# Altium schematic symbol library SmartHalo_Symbols.SchLib: 126 symbols (part 1 of 2)
Pins are listed as number, name and electrical type; pins without a type are passive.

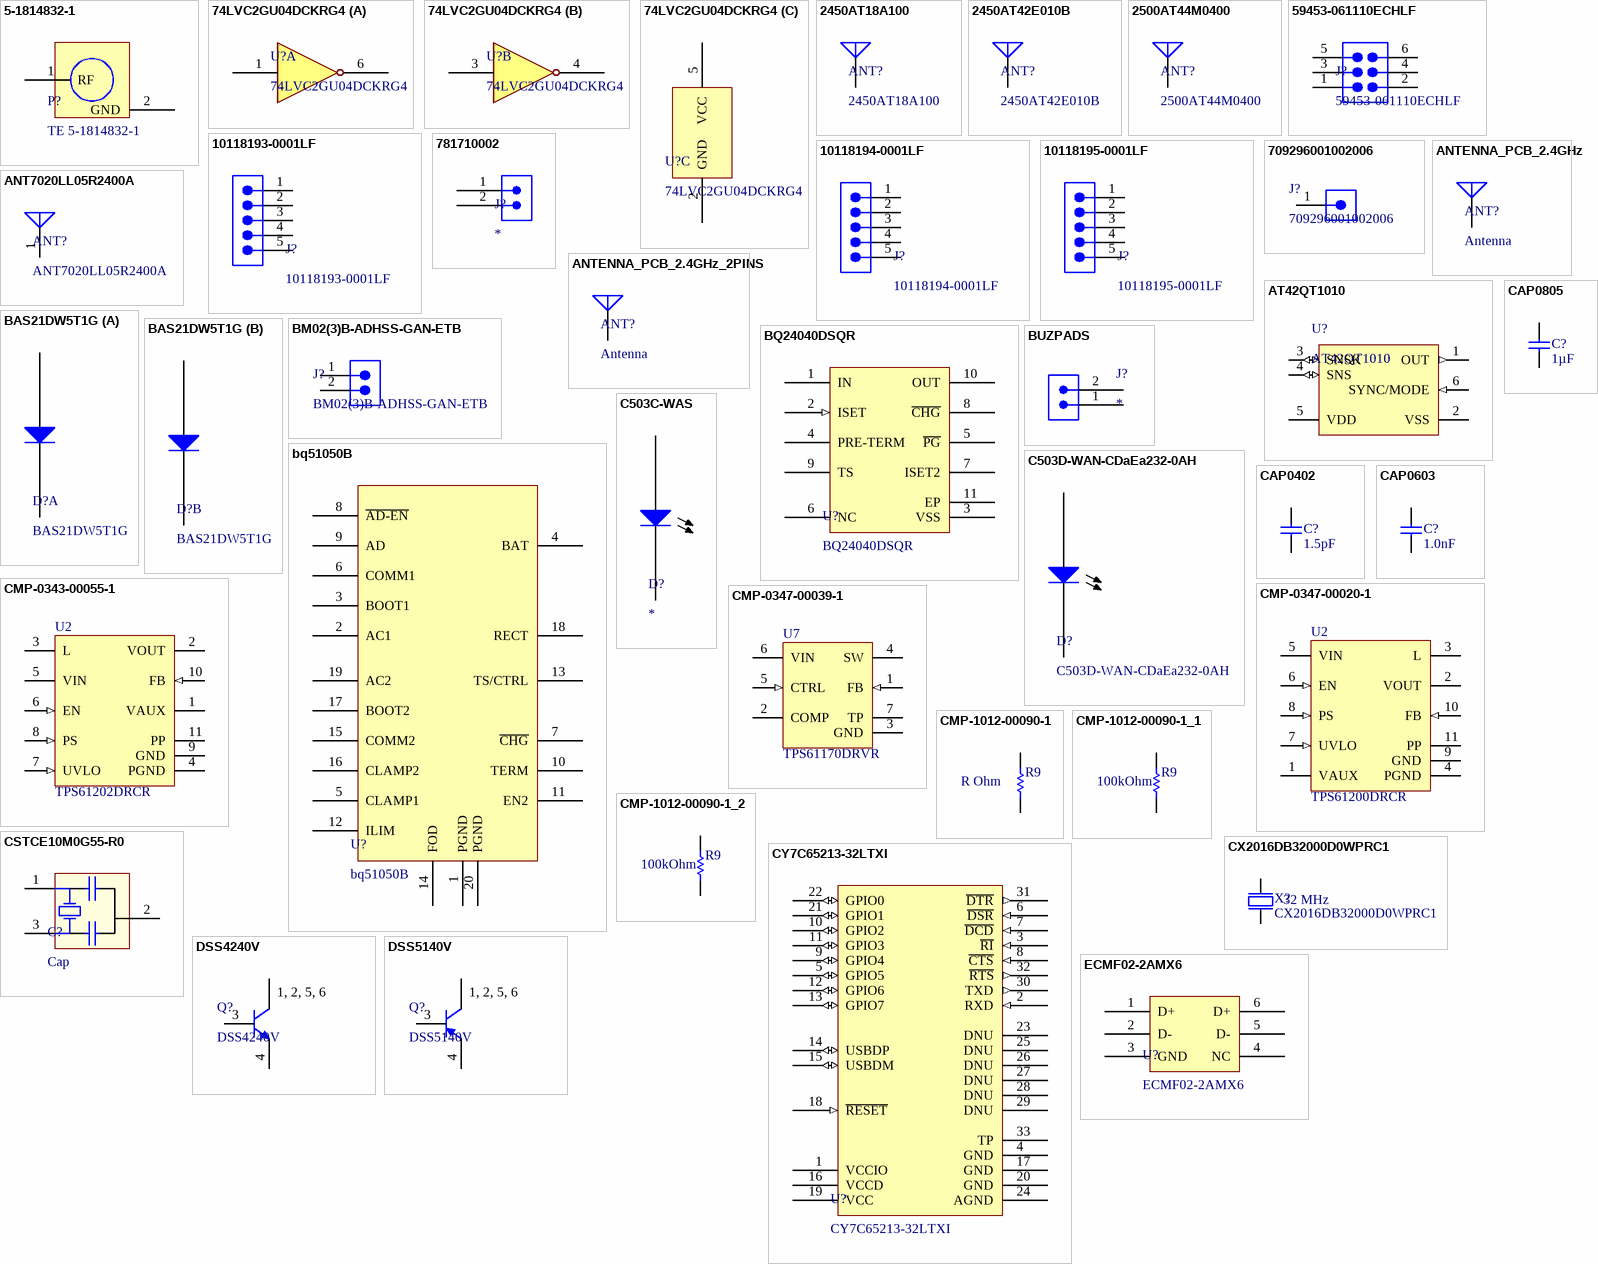
[diagram p0: symbols 5-1814832-1 to ECMF02-2AMX6]

## 5-1814832-1
designator P?, comment TE 5-1814832-1
CONN SMA JACK STR 50 OHM PCB; Manufacturer: TE Connectivity
footprint TE_SMA_TH (CONN SMA JACK STR 50 OHM PCB, 4 x 1.6mm holes, 1.5mm central hole, 5.08mm pitch)
pins: 1 RF, 2 GND

## 74LVC2GU04DCKRG4
designator U?
Dual Inverter Gate; Manufacturer: Texas Instruments; Manufacturer Part Number: 74LVC2GU04DCKRG4; Part Number: 74LVC2GU04DCKRG4; Supplier: Arrow Electronics; Footprint Name: SOT363
footprint SOT363_SC70_6 (SOT363-6, SC70, 2 x 1.25 x 1 mm body, 16 x 26 mils pads, 26 x 71 mils pitch)
part A pins: 1, 6
part B pins: 3, 4
part C pins: 2 GND, 5 VCC

## 2450AT18A100
designator ANT?
CHIP ANTENNA, 2.45GHz, 3.2 x 1.6 x 1.3 mm body; Manufacturer: Johanson Technology; Part Number: 2450AT18A100; Manufacturer Part Number: 2450AT18A100
footprint 2450AT18A100 (Johanson Technology 2.45GHz SMD Chip Antenna, 3.2 x 1.6 mm body, 0.8 x 1.6 mm pads)
pins: 1 Feed

## 2450AT42E010B
designator ANT?
CHIP ANTENNA, 2.45GHz, 5 x 2 x 1.5 mm body; Manufacturer: Johanson Technology; Part Number: 2450AT42E010B; Manufacturer Part Number: 2450AT42E010B; Supplier: Arrow Electronics; Footprint Name: CUSTOM(2 pins)
footprint 2450AT42E010B (2.4 GHz Low Profile Mini Chip Antenna, Above Metal, 4 pads, 1.5 x 0.6 mm pads, 3.5 x 1.6 mm pitch, 6.26 x 3 mm metal clearance)
pins: 1 Feed, 2 NC (power) hidden, 3 GND (power) hidden to GND, 4 GND (power) hidden to GND

## 2500AT44M0400
designator ANT?
CHIP ANTENNA, 2.45GHz, 8 x 1 mm body; Manufacturer: Johanson Technology; Part Number: 2500AT44M0400; Manufacturer Part Number: 2500AT44M0400
footprint 2500AT44M0400 (Johanson Technology 2.45GHz SMD Chip Antenna, 8 x 1 mm body, 1 x 1.5 mm pads)
pins: 1 Feed

## 59453-061110ECHLF
designator J?
Connector, FPC, 0.5 mm pitch, 6 contacts; Manufacturer: FCI; Manufacturer Part Number: 59453-061110ECHLF; Part Number: 59453-061110ECHLF; Supplier: Arrow Electronics; Footprint Name: CUSTOM(FPC Connector)
footprint 59453061110ECHLF (Connector, 6 contacts, 0.3 x 0.9 mm pads, 0.52 x 1.0 mm mechanical pads, 0.5 mm pitch)
pins: 0 ASSY (power) hidden to GND, 1, 2, 3, 4, 5, 6

## 10118193-0001LF
designator J?
Micro USB B Type Receptacle; Manufacturer: Amphenol FCI; Manufacturer Part Number: 10118193-0001LF; Part Number: 10118193-0001LF
footprint 10118193-0001LF (Micro USB B Type Receptacle, 5 pins, 0.4 x 1.35 mm pads)
pins: 1, 2, 3, 4, 5

## 10118194-0001LF
designator J?
Micro USB B Type Receptacle; Manufacturer: Amphenol FCI; Manufacturer Part Number: 10118194-0001LF; Part Number: 10118194-0001LF; Supplier: Arrow Electronics; Footprint Name: CUSTOM(Micro USB connector); Supplier Part Number: *
footprint 10118194-0001LF (Micro USB B Type Receptacle, 5 pins, 0.4 x 1.35 mm pads)
pins: 0 ASSY (power) hidden to USBGND, 1, 2, 3, 4, 5

## 10118195-0001LF
designator J?
Micro USB B Type Receptacle; Manufacturer: Amphenol FCI; Manufacturer Part Number: 10118195-0001LF; Part Number: 10118195-0001LF
footprint 10118195-0001LF (Micro USB B Type Receptacle, 5 pins, 0.4 x 1.35 mm pads)
pins: 0 ASSY (power) hidden to GND, 1, 2, 3, 4, 5

## 781710002
designator J?  (no BOM)
1.20MM WTB HEADER VERT 2POS
footprint 0781710002 (Molex header, 1 row, 2 pos, pitch 1.2mm)
pins: 1, 2

## 709296001002006
designator J?
Connector, Single Horizontal Contact, 2 x 2 mm; Manufacturer: AVX; Manufacturer Part Number: 709296001002006; Part Number: 709296001002006; Supplier: Arrow Electronics; Footprint Name: CUSTOM(Wire to board connector); Supplier Part Number: *
footprint 709296001002006 (Connector Wire to Board, 2.0 x 2.0 mm, 2 pads, 2.4 x 2.2 mm, 4 mm pitch)
pins: 1

## ANT7020LL05R2400A
designator ANT?
CHIP ANTENNA, 2.45GHz, 7 x 2 mm body; Manufacturer: Yageo; PartNumber: ANT7020LL05R2400A
footprint ANT7020LL05R2400A (Yageo 2.45GHz SMD Chip Antenna, 7 x 2 mm body, 1.25 x 1 mm pads)
pins: 1 Feed

## ANTENNA_PCB_2.4GHz
designator ANT?, comment Antenna  (no BOM)
Antenna PCB, 2.4GHz, 26.11 mm x 1.27 mm, FR4 60 mils, Er = 4.2
footprint ANTENNA_PCB_2.4GHZ (ANT_PCB_2.4GHZ_NRF51422_1.6MM_1OZ)
footprint ANT_2.4GHZ_FR408_4L_Meander (PCB printed meander antenna design for 2.4GHz band on FR408 4 layer substrate with internal ground plane (1 oz external cu/0.5 oz internal))
pins: 1 Feed

## ANTENNA_PCB_2.4GHz_2PINS
designator ANT?, comment Antenna  (no BOM)
Antenna PCB, 2.4GHz
footprint ANT_2.4GHZ_FR408_4L_CMIFA (PCB printed Cypress MIFA antenna design for 2.4GHz band (TI) on FR408 4 layer substrate with internal ground plane (1 oz external cu/0.5 oz internal))
footprint ANT_2.4GHZ_FR408_4L_TIFA (PCB printed IFA antenna design for 2.4GHz band (TI) on FR408 4 layer substrate with internal ground plane (1 oz external cu/0.5 oz internal))
pins: 1 Feed, 2 GND (power) hidden to GND

## AT42QT1010
designator U?
One-channel Touch Sensor IC with Reset Timer, -40° to +85° C, 6-pin SOT23; Manufacturer: Atmel; Manufacturer Part Number: AT42QT1010; Part Number: AT42QT1010; Supplier: Arrow Electronics; Footprint Name: SOT23-6
footprint 6ST1_N (SOT23, 6-Leads, Body 2.9x1.6mm, Pitch 0.95mm, Lead Span 2.8mm, IPC Medium Density)
pins: 1 OUT (out), 2 VSS (power), 3 SNSK (io), 4 SNS (io), 5 VDD (power), 6 SYNC/MODE (in)

## BAS21DW5T1G
designator D?
High Voltage Switching Diode; Manufacturer: ON Semiconductor; Manufacturer Part Number: BAS21DW5T1G; Part Number: BAS21DW5T1G; Supplier: Arrow Electronics; Footprint Name: SC70-5
footprint SC70-5 (SC70-5, 0.4 x 0.5 mm pads, 0.65 x 1.9 mm pitch)
part A pins: 1 Anode, 5 Cathode
part B pins: 2 hidden, 3 Anode, 4 Cathode

## BM02(3)B-ADHSS-GAN-ETB
designator J?
Connector, 1.3 mm pitch; Manufacturer: JST; Manufacturer Part Number: BM02(3)B-ADHSS-GAN-ETB; Part Number: BM02(3)B-ADHSS-GAN-ETB; Supplier: Arrow Electronics; Footprint Name: CUSTOM(ADH Connector 2 pins)
footprint BM02(3)B-ADHSS-GAN-ETB (ADH Connector, 2 pins, 0.9 x 0.6 mm pads, 2 mecanical pads 2.2 x 0.75 mm)
pins: 0 ASSY (power) hidden to GND, 1, 2

## BQ24040DSQR
designator U?
800 mA, Single-Input, Single Cell Li-Ion Battery Charger with Auto Start. Vovp=6.6 V, 3.5 V, -40 to 85 degC, 10-pin SON (DSQ), Green (RoHS & no Sb/Br); Manufacturer: Texas Instruments; Manufacturer Part Number: BQ24040DSQR; Part Number: BQ24040DSQR; Supplier: Arrow Electronics; Footprint Name: WSON10
footprint DSQ10-1500X900TP (WSON-10, 10 pins, 0.23 x 0.7 mm pads, 0.4 x 2.1 mm pitch, Thermal pad 0.9 x 1.5 mm)
pins: 1 IN (power), 2 ISET (in), 3 VSS (power), 4 PRE-TERM, 5 ~{PG}, 6 NC, 7 ISET2, 8 ~{CHG}, 9 TS, 10 OUT (power), 11 EP (power)

## bq51050B
designator U?
IC WIRELESS PWR RCVR 20QFN
footprint RHL20-3050X2050TP (QFN, 20-Leads, Body 4.5x3.5mm, Pitch 0.5mm, Thermal Pad 3.05x2.05mm, TI Recommended)
pins: 1 PGND, 2 AC1, 3 BOOT1, 4 BAT, 5 CLAMP1, 6 COMM1, 7 ~{CHG}, 8 ~{AD-EN}, 9 AD, 10 TERM, 11 EN2, 12 ILIM, 13 TS/CTRL, 14 FOD, 15 COMM2, 16 CLAMP2, 17 BOOT2, 18 RECT, 19 AC2, 20 PGND, 21 TP (power) hidden to GND "Thermal pad"

## BUZPADS
designator J?
Buzzer Pogo Pins, Sizes and Pitch TBD
footprint BUZZERPADS (Buzzer Pogo Pin Pads, 2 x 0.5mm, Pitch 1mm)
pins: 1, 2

## C503C-WAS
designator D?
Cree 5mm Round LED C503C-WAS
footprint FRONTLED_PADS (Front Led pads); pin to pad A>1 C>2
pins: 1 Anode, 2 Cathode

## C503D-WAN-CDaEa232-0AH
designator D?
Cree 5mm Round LED C503D-WAN-CDaEa232-0AH; Manufacturer: Cree; Manufacturer Part Number: C503D-WAN-CDaEa232-0AH; Part Number: C503D-WAN-CDaEa232-0AH; Supplier: Arrow Electronics; Footprint Name: THROUGHHOLE(2 pins)
footprint FRONTLED_PADS (Front Led pads); pin to pad A>1 C>2
pins: 1 Anode, 2 Cathode

## CAP0402
designator C?, comment 1.5pF
Chip Cap 0402 NP0 5%; Part Number: C0402-1.2p; Note: Chip Cap NP0 5%; Artikkelnr Noca: 20029157; Manufacturer: *; Manufacturer Part Number: *; Datasheet: *; Footprint: 0402s; LatestRevisionDate: 2009-05-08; Pin Count: 2; Publisher: Nordic Semiconductor; Published: 2009-05-08; Value: 1.5pF; Supplier: *; Supplier part number: *; 2nd source Supplier: *; 2nd source part number: *
footprint 0402s
pins: 1, 2

## CAP0603
designator C?, comment 1.0nF
Chip Cap 0603 X7R 10%; Part Number: C0402-1n0; Note: Chip Cap X7R 10%; Artikkelnr Noca: 20039223; Published: 2009-05-08; LatestRevisionDate: 2009-11-23; Publisher: Nordic Semiconductor; Value: 1.0nF; Manufacturer: *; Manufacturer Part Number: *; Datasheet: *; Footprint: 0603; Pin Count: 2; Supplier: *
footprint CAPC0603(1608)100_N (Chip Capacitor, Body 1.6x0.8mm, Height 1.0mm, IPC Medium Density)
pins: 1, 2

## CAP0805
designator C?, comment 1µF
X7R, 10V; Part Number: C0603-1µ0; Manufacturer: TAIYO YUDEN; Manufacturer Part Number: LMK107B7105KA-T; Note: Chip Cap 10% X7R; Published: 2009-05-08; LatestRevisionDate: 2009-11-23; Publisher: Nordic Semiconductor; Value: 1µF; Datasheet: http://www.yuden.co.jp/us/product/capacitor/LMK107B7105KA-T.html; Footprint: 0603s; Pin Count: 2; Supplier: Farnell; Artikkelnr Noca: *; Supplier Part Number: 1683674
footprint CAPC0805(2012)100_N (Chip Capacitor, Body 2.0x1.2mm, Height 1.0mm, IPC Medium Density)
pins: 1, 2

## CMP-0343-00055-1
designator U2, comment TPS61202DRCR
Boost Voltage Converter with 0.3 to 5.5 V Input and 5 V Output, -40 to 85 degC, 10-Pin SON (DRC), Green (RoHS & no Sb/Br); Manufacturer: Texas Instruments; Vout(Min)(V): 5; Vin(Min)(V): 0.3; Synchronous Rectification: TRUE; SubFamily: Step-Up Regulator; Vin(Max)(V): 5.5; Regulated Outputs(#): 1; Switching Frequency(Max)(kHz): 1250; DatasheetVersion: SLVS577B; Eco-Plan: Green (RoHS & no Sb/Br); PackageVersion: revL, Sep-2011; ComponentLink1Description: Datasheet; ComponentLink1URL: http://www.ti.com/general/docs/lit/getliterature.tsp?genericPartNumber=TPS61202&fileType=pdf; PartNumber: TPS61202DRCR; Vout(Max)(V): 5; Topology: Boost; ComponentLink2Description: Package Specification; Mounting Technology: Surface Mount; PackageDescription: 10-Pin Plastic Small Outline No-Lead, 3 x 3 x 1 mm Body, 0.5 mm Pitch, Exposed Pad; PackageReference: DRC10-2400X1650TP; Preset Vout(V): 5; ComponentLink2URL: http://www.ti.com/litv/pdf/mpds117k
footprint DRC10-2400X1650TP (SON, 10-Leads, Body 3x3mm, Pitch 0.5mm, Thermal Pad 2.4x1.65mm, TI Recommended)
pins: 1 VAUX (power) "Supply voltage for control stage", 2 VOUT (power) "Boost converter output", 3 L (power) "Connection for Inductor", 4 PGND (power) "Power ground", 5 VIN (power) "Boost converter input voltage", 6 EN (in) "Enable input (1: enabled, 0: disabled).", 7 UVLO (in) "Undervoltage lockout comparator input, must be connected to VAUX if not used", 8 PS (in) "Enable/disable Power Save mode (1 : disabled, 0: enabled)", 9 GND (power) "Control / logic ground", 10 FB (in) "Voltage feedback of adjustable versions, must be connected to VOUT at fixed output voltage versions", 11 PP (power) "Must be soldered to achieve appropriate power dissipation. Should be connected to PGND."

## CMP-0347-00020-1
designator U2, comment TPS61200DRCR
Boost Voltage Converter with 0.3 to 5.5 V Input and 1.8 to 5.5 V Output, -40 to 85 degC, 10-Pin SON (DRC), Green (RoHS & no Sb/Br); Manufacturer: Texas Instruments; Vout(Min)(V): 1.8; Vin(Max)(V): 5.5; Synchronous Rectification: TRUE; Regulated Outputs(#): 1; Vin(Min)(V): 0.3; Switching Frequency(Max)(kHz): 1250; SubFamily: Step-Up Regulator; ComponentLink2Description: Package Specification; Mounting Technology: Surface Mount; PartNumber: TPS61200DRCR; ComponentLink2URL: http://www.ti.com/litv/pdf/mpds117k; PackageVersion: revL, Sep-2011; Eco-Plan: Green (RoHS & no Sb/Br); Vout(Max)(V): 5.5; PackageDescription: 10-Pin Plastic Small Outline No-Lead, 3 x 3 x 1 mm Body, 0.5 mm Pitch, Exposed Pad; PackageReference: DRC10-2400X1650TP; DatasheetVersion: SLVS577B; ComponentLink1URL: http://www.ti.com/general/docs/lit/getliterature.tsp?genericPartNumber=TPS61200&fileType=pdf; ComponentLink1Description: Datasheet; Topology: Boost
footprint DRC10-2400X1650TP (SON, 10-Leads, Body 3x3mm, Pitch 0.5mm, Thermal Pad 2.4x1.65mm, TI Recommended)
pins: 1 VAUX (power) "Supply voltage for control stage", 2 VOUT (power) "Boost converter output", 3 L (power) "Connection for Inductor", 4 PGND (power) "Power ground", 5 VIN (power) "Boost converter input voltage", 6 EN (in) "Enable input (1: enabled, 0: disabled).", 7 UVLO (in) "Undervoltage lockout comparator input, must be connected to VAUX if not used", 8 PS (in) "Enable/disable Power Save mode (1 : disabled, 0: enabled)", 9 GND (power) "Control / logic ground", 10 FB (in) "Voltage feedback of adjustable versions, must be connected to VOUT at fixed output voltage versions", 11 PP (power) "Must be soldered to achieve appropriate power dissipation. Should be connected to PGND."

## CMP-0347-00039-1
designator U7, comment TPS61170DRVR
Boost Voltage Converter with 3 to 18 V Input and 3 to 38 V Output, -40 to 85 degC, 6-Pin SON (DRC), Green (RoHS & no Sb/Br); Manufacturer: Texas Instruments; Regulated Outputs(#): 1; Vout(Min)(V): 3; SubFamily: Step-Up Regulator; Dynamic Voltage Scaling: TRUE; Vin(Max)(V): 18; Switching Frequency(Max)(kHz): 1200; Vout(Max)(V): 38; Eco-Plan: Green (RoHS & no Sb/Br); Topology: Boost; ComponentLink1Description: Datasheet; DatasheetVersion: SLVS789C; ComponentLink2URL: http://www.ti.com/litv/pdf/mpds216d; PackageReference: DRV6-1600X1000TP; PartNumber: TPS61170DRVR; ComponentLink1URL: http://www.ti.com/general/docs/lit/getliterature.tsp?genericPartNumber=TPS61170&fileType=pdf; PackageVersion: revE, Oct-2010; Mounting Technology: Surface Mount; Vin(Min)(V): 3; ComponentLink2Description: Package Specification; PackageDescription: 6-Pin Plastic Small Outline No-Lead, 2 x 2 x 0.8 mm Body, 0.65 mm Pitch, Exposed Pad
footprint DRV6-1600X1000TP (SON, 6-Leads, Body 2x2mm, Pitch 0.65mm, Thermal Pad 1.6x1mm, TI Recommended)
pins: 1 FB (in) "Feedback pin for current. Connect to the center tap of a resistor divider to program the output voltage.", 2 COMP "Output of the transconductance error amplifier. Connect an external RC network to this pin to compensate the regulator.", 3 GND (power) "Ground", 4 SW (power) "This is the switching node of the IC. Connect SW to the switched side of the inductor", 5 CTRL (in) "Control pin of the boost regulator. CTRL is a multi-functional pin which can be used to enable the device and control the feedback voltage with a PWM signal or for digital communications.", 6 VIN (power) "The input supply pin for the IC. Connect VIN to a supply voltage between 3 V and 18 V.", 7 TP (power) "The thermal pad should be soldered to the analog ground plane to avoid thermal issue. If possible, use thermal vias to connect to ground plane for ideal power dissipation."

## CMP-1012-00090-1
designator R9, comment R Ohm
R W TOL%  0603 (1608 Metric)  SMD; Tolerance: TOL; Case-Metric: 1608; Case-EIA: 0603; Technology: SMT; Power: W; Value: R Ohm
footprint RESC0603(1608)_M (Chip Resistor, Body 1.6x0.8mm, IPC Low Density)
pins: 1, 2
1 alternate drawing of the same symbol

## CMP-1012-00090-1_1
designator R9, comment 100kOhm
100K 0.063W 1%  0603 (1608 Metric)  SMD; Case-Metric: 1608; Case-EIA: 0603; Tolerance: 1 %; Technology: SMT; Power: 0.063 W; Value: 100kOhm
footprint RESC0603(1608)_N (Chip Resistor, Body 1.6x0.8mm, IPC Medium Density)
footprint RESC0603(1608)_M (Chip Resistor, Body 1.6x0.8mm, IPC Low Density)
footprint RESC0603(1608)_L (Chip Resistor, Body 1.6x0.8mm, IPC High Density)
pins: 1, 2
1 alternate drawing of the same symbol

## CMP-1012-00090-1_2
designator R9, comment 100kOhm
100K 0.063W 1%  0603 (1608 Metric)  SMD; Case-Metric: 1608; Case-EIA: 0603; Tolerance: 1 %; Technology: SMT; Power: 0.063 W; Value: 100kOhm
footprint RESC0603(1608)_N (Chip Resistor, Body 1.6x0.8mm, IPC Medium Density)
footprint RESC0603(1608)_M (Chip Resistor, Body 1.6x0.8mm, IPC Low Density)
footprint RESC0603(1608)_L (Chip Resistor, Body 1.6x0.8mm, IPC High Density)
pins: 1, 2
1 alternate drawing of the same symbol

## CSTCE10M0G55-R0
designator C?, comment Cap
CER RESONATOR 10.0MHZ SMD
footprint CSTCE10M0G55-R0 (SMD, 3-Leads, Body 3.2x1.3mm, Pitch 1.2mm)
pins: 1 C1, 2 GND (power), 3 C2

## CX2016DB32000D0WPRC1
designator X?  Frequency: 32 MHz
XTAL 32 MHz, 8pF, 3.2 x 1.5 mm, ±20 ppm Tol, ±200 ppm Drift; Manufacturer: AVX/Kyocera; Frequency Drift: ±40 ppm; Manufacturer Part Number: CX2016DB32000D0WPRC1; Part Number: CX2016DB32000D0WPRC1; Frequency Tolerance: ±40 ppm; Load Capacitance: 8 pF; Supplier: Arrow Electronics; Footprint Name: XTAL2016
footprint CRYSTAL_2016_4Pins (CRYSTAL 2.0 x 1.6 mm, 4 Pads, 1.4 mm Horizontal Pitch, 1.1 mm Vertical Pitch)
pins: 1 inp, 2 GND hidden to GND, 3 out, 4 GND hidden to GND

## CY7C65213-32LTXI
designator U?
IC USB TO UART BRIDGE 32QFN; Manufacturer: Cypress; Manufacturer Part Number: CY7C65213-32LTXI; Part Number: CY7C65213-32LTXI; Supplier: Arrow Electronics; Footprint Name: QFN32TP
footprint QFN-32-TP (QFN-32, 5.0 x 5.0 x 1.0 mm body, 0.25 x 0.7 mm pads, 2.75 x 2.75 thermal pad)
pins: 1 VCCIO (power), 2 RXD (in), 3 ~{RI} (in), 4 GND (power), 5 GPIO5 (io), 6 ~{DSR} (in), 7 ~{DCD} (in), 8 ~{CTS} (in), 9 GPIO4 (io), 10 GPIO2 (io), 11 GPIO3 (io), 12 GPIO6 (io), 13 GPIO7 (io), 14 USBDP (io), 15 USBDM (io), 16 VCCD (power), 17 GND (power), 18 ~{RESET} (in), 19 VCC (power), 20 GND (power), 21 GPIO1 (io), 22 GPIO0 (io), 23 DNU, 24 AGND, 25 DNU, 26 DNU, 27 DNU, 28 DNU, 29 DNU, 30 TXD (out), 31 ~{DTR} (out), 32 ~{RTS} (out), 33 TP (power)

## DSS4240V
designator Q?
NPN SMT Transistor, Low VCESAT; Manufacturer: Diodes Inc.; hfe: 300; VBE: 1.1V; VCESAT: 400 mV; Part Number: DSS4240V; Manufacturer Part Number: DSS4240V; Footprint Name: SOT563
footprint SOT563 (SOT563, 1.25 x 1.7 mm body, 6 pins, 0.375 x 0.5 mm pads, 0.5 x 1.7 mm pitch)
pins: 1 C, 2 C, 3 B, 4 E, 5 C, 6 C
text: 1, 2, 5, 6

## DSS5140V
designator Q?
PNP SMT Transistor, Low VCESAT; Manufacturer: Diodes Inc.; hfe: 300; VBE: -1V; VCESAT: -310 mV; Part Number: DSS5140V; Manufacturer Part Number: DSS5140V; Footprint Name: SOT563
footprint SOT563 (SOT563, 1.25 x 1.7 mm body, 6 pins, 0.375 x 0.5 mm pads, 0.5 x 1.7 mm pitch)
pins: 1 C, 2 C, 3 B, 4 E, 5 C, 6 C
text: 1, 2, 5, 6

## ECMF02-2AMX6
designator U?
Common mode filter with ESD protection for USB 2.0 Interface; Manufacturer: STMicroelectronics; Manufacturer Part Number: ECMF02-2AMX6; Part Number: ECMF02-2AMX6; Supplier: Arrow Electronics; Footprint Name: uQFN6L
footprint uQFN-6L (Micro QFN, 6 pins, 1.55 x 1.75 x 0.55 mm body, 0.25 x 0.6 mm pads, 0.5 x 1.3 mm pitch)
pins: 1 D+ "Data Line +", 2 D- "Data Line -", 3 GND (power) "Ground", 4 NC "No connection", 5 D- "Data line -", 6 D+ "Data line +"

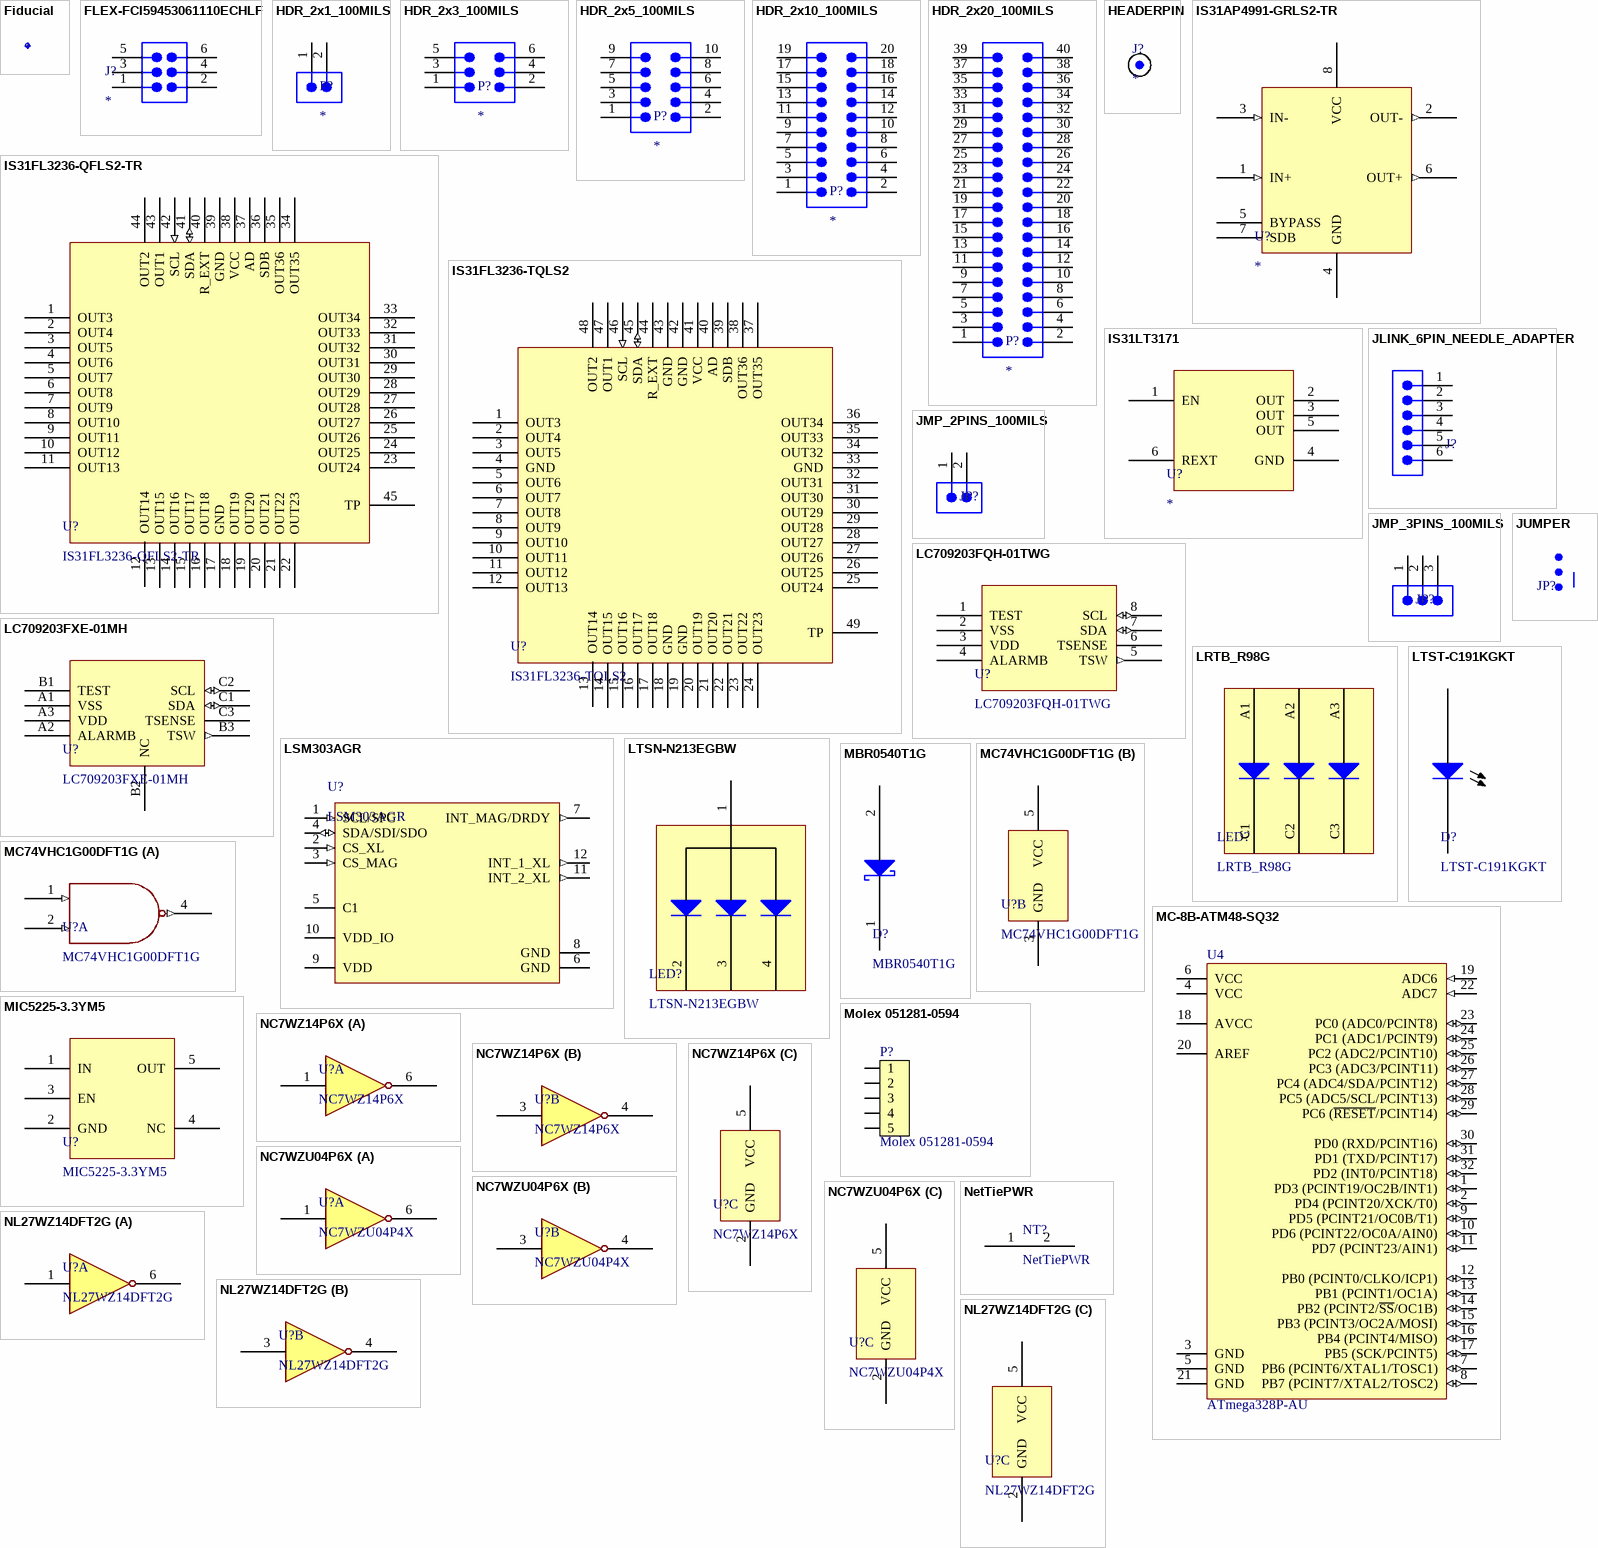
[diagram p1: symbols Fiducial to NL27WZ14DFT2G]

## Fiducial
designator Fid?, comment Fiducial mark  (value not drawn)
footprint Fiducial

## FLEX-FCI59453061110ECHLF
designator J?  (no BOM)
Flex Connector, to connect to FPC, 0.5 mm pitch, 6 contacts
footprint FLEX-FCI5945306111CHLF (Flex male connector for FCI59453-06111CHLF socket, 6 pins, 2.6 x 0.3 mm pads, 0.5 mm pitch)
pins: 1, 2, 3, 4, 5, 6

## HDR_2x1_100MILS
designator P?  (no BOM)
Header, 100 mils, 2 rows, 2 pins
footprint HDR_2X1_100MILS (Header 100 mils, 2 rows, 2 pins. 0.9mm hole, 1.5 mm side)
pins: 1, 2

## HDR_2x3_100MILS
designator P?  (no BOM)
Header, 100 mils, 2 rows, 6 pins
footprint HDR_2X3_100MILS (Header 100 mils, 2 rows, 6 pins. 0.9mm hole, 1.5 mm side)
pins: 1, 2, 3, 4, 5, 6

## HDR_2x5_100MILS
designator P?  (no BOM)
Header, 100 mils, 2 rows, 10 pins
footprint HDR_2X5_100MILS (Header 100 mils, 2 rows, 10 pins. 0.9mm hole, 1.5 mm side)
pins: 1, 2, 3, 4, 5, 6, 7, 8, 9, 10

## HDR_2x10_100MILS
designator P?  (no BOM)
Header, 100 mils, 2 rows, 20 pins
footprint HDR_2X10_100MILS (Header 100 mils, 2 rows, 20 pins. 0.9mm hole, 1.5 mm side)
pins: 1, 2, 3, 4, 5, 6, 7, 8, 9, 10, 11, 12, 13, 14, 15, 16, 17, 18, 19, 20

## HDR_2x20_100MILS
designator P?  (no BOM)
Header, 100 mils, 2 rows, 40 pins
footprint HDR_2X20_100MILS (Header 100 mils, 2 rows, 40 pins. 0.9mm hole, 1.5 mm side)
pins: 1, 2, 3, 4, 5, 6, 7, 8, 9, 10, 11, 12, 13, 14, 15, 16, 17, 18, 19, 20, 21, 22, 23, 24, 25, 26, 27, 28, 29, 30, 31, 32, 33, 34, 35, 36, 37, 38, 39, 40

## HEADERPIN
designator J?  (no BOM)
HEADER 0.025" PIN
footprint HEADERPIN (HEADER PIN 40 mils hole)
pins: 1

## IS31AP4991-GRLS2-TR
designator U?
IC AUDIO AMP MONO 1.2W 8SOP
footprint SOP8
pins: 1 IN+ (in), 2 OUT- (out), 3 IN- (in), 4 GND (power), 5 BYPASS, 6 OUT+ (out), 7 SDB, 8 VCC (power)

## IS31FL3236-QFLS2-TR
designator U?
IC 36 CHANNELS LED DRIVER; Manufacturer: ISSI; Manufacturer Part Number: IS31FL3236-QFLS2-TR; Part Number: IS31FL3236-QFLS2-TR; Supplier: Arrow Electronics; Footprint Name: QFN44TP
footprint QFN-44 (QFN-44, 5 x 5 x 0.8 mm body, 0.25 x 0.8 mm pads, 0.4 pin pitch, 2.55 x 2.55 mm thermal pad)
pins: 1 OUT3, 2 OUT4, 3 OUT5, 4 OUT6, 5 OUT7, 6 OUT8, 7 OUT9, 8 OUT10, 9 OUT11, 10 OUT12, 11 OUT13, 12 OUT14, 13 OUT15, 14 OUT16, 15 OUT17, 16 OUT18, 17 GND (power), 18 OUT19, 19 OUT20, 20 OUT21, 21 OUT22, 22 OUT23, 23 OUT24, 24 OUT25, 25 OUT26, 26 OUT27, 27 OUT28, 28 OUT29, 29 OUT30, 30 OUT31, 31 OUT32, 32 OUT33, 33 OUT34, 34 OUT35, 35 OUT36, 36 SDB, 37 AD, 38 VCC (power), 39 GND (power), 40 R_EXT, 41 SDA (io), 42 SCL (in), 43 OUT1, 44 OUT2, 45 TP (power) "Thermal Pad"

## IS31FL3236-TQLS2
designator U?
IC 36 CHANNELS LED DRIVER; Manufacturer: ISSI
footprint TQFP48 (TQFP48, 7 x 7 x 1.2 mm, 0.5 mm pitch)
pins: 1 OUT3, 2 OUT4, 3 OUT5, 4 GND (power), 5 OUT6, 6 OUT7, 7 OUT8, 8 OUT9, 9 OUT10, 10 OUT11, 11 OUT12, 12 OUT13, 13 OUT14, 14 OUT15, 15 OUT16, 16 OUT17, 17 OUT18, 18 GND (power), 19 GND (power), 20 OUT19, 21 OUT20, 22 OUT21, 23 OUT22, 24 OUT23, 25 OUT24, 26 OUT25, 27 OUT26, 28 OUT27, 29 OUT28, 30 OUT29, 31 OUT30, 32 OUT31, 33 GND (power), 34 OUT32, 35 OUT33, 36 OUT34, 37 OUT35, 38 OUT36, 39 SDB, 40 AD, 41 VCC (power), 42 GND (power), 43 GND (power), 44 R_EXT, 45 SDA (io), 46 SCL (in), 47 OUT1, 48 OUT2, 49 TP (power) "Thermal Pad"

## IS31LT3171
designator U?
10-TO-150MA CONSTANT-CURRENT LED DRIVER; Manufacturer: ISSI; Manufacturer Part Number: IS31LT3171; Part Number: IS31LT3171; Supplier: Arrow Electronics; Footprint Name: SOT23-6
footprint SOT23-6 (SOT23-6 pins, 2.92 x 1.6 mm body, 0.7mm x 1mm pads, 0.95 x 2.4 mm pitch)
pins: 1 EN, 2 OUT, 3 OUT, 4 GND, 5 OUT, 6 REXT

## JLINK_6PIN_NEEDLE_ADAPTER
designator J?  (no BOM)
JLink 6 Pin Needle Adapter for Flasher ARM Programmer; Manufacturer: JLink; Supplier: Digikey
footprint JLINK_6PIN_NEEDLE_ADAPTER (JLINK 6 PIN NEEDLE ADAPTER FOOTPRINT: Only for development (DNP))
pins: 1, 2, 3, 4, 5, 6

## JMP_2PINS_100MILS
designator JP?  (value not drawn)  (no BOM)
Jumper, 100 mils, 2 pins
footprint HDR_2X1_100MILS (Header 100 mils, 2 rows, 2 pins. 0.9mm hole, 1.5 mm side)
pins: 1, 2

## JMP_3PINS_100MILS
designator JP?  (value not drawn)  (no BOM)
Jumper, 100 mils, 3 pins
footprint HDR_1X3_100MILS (Header 100 mils, 1 row, 3 pins. 0.9mm hole, 1.5 mm side)
pins: 1, 2, 3

## JUMPER
designator JP?  (value not drawn)  (no BOM)
JUMPER
footprint JUMPER_SMT (JUMPER SMT)
pins: 1, 2, 3

## LC709203FQH-01TWG
designator U?
Smart LiB Gauge, Battery Fuel Gauge LSI for 1-Cell Lithium-ion (Li+); Manufacturer: ON Semiconductor; Manufacturer Part Number: LC709203FQH-01TWG; Part Number: LC709203FQH-01TWG; Supplier: Arrow Electronics; Footprint Name: WDFN8
footprint WDFN8 (WDFN8, 3 x 4 mm, 8 pins, 0.7 x 0.35 mm pads, 0.65 x 3.6 mm pitch)
pins: 1 TEST, 2 VSS (power), 3 VDD (power), 4 ALARMB, 5 TSW (out), 6 TSENSE, 7 SDA (io), 8 SCL (io)

## LC709203FXE-01MH
designator U?
Smart LiB Gauge, Battery Fuel Gauge LSI for 1-Cell Lithium-ion (Li+); Manufacturer: ON Semiconductor; Manufacturer Part Number: LC709203FXE-01MH; Part Number: LC709203FXE-01MH
footprint WLCSP9 (WLCSP9, 1.6 x 1.76 mm, 9 pads 0.25 mm diameter, 0.5 mm pitch)
pins: A1 VSS (power), A2 ALARMB, A3 VDD (power), B1 TEST, B2 NC, B3 TSW (out), C1 SDA (io), C2 SCL (io), C3 TSENSE

## LRTB_R98G
designator LED?
IC RGB LED OSRAM; Manufacturer: OSRAM
footprint LRTB_R98G (OSRAM LRTB R98G IC LED, 1.7 x 1.7 x 1 mm, SMT6)
pins: A1 Anode_Blue, A2 Anode_Green, A3 Anode_Red, C1 Cathode_Blue, C2 Cathode_Green, C3 Cathode_Red

## LSM303AGR
designator U?
IC 3D Accelerometer and 3D Magnetometer, LGA-12, 2 x 2 x 1 mm; Manufacturer: STMicroelectronics; Manufacturer Part Number: LSM303AGR; Supplier: Arrow Electronics; Footprint Name: LGA12; Part Number: LSM303AGR
footprint LGA12-2X2X1_N (PQFN, 12-Leads, Body 2x2mm, Pitch 0.5mm, IPC Medium Density)
pins: 1 SCL/SPC (in), 2 CS_XL (in), 3 CS_MAG (in), 4 SDA/SDI/SDO (io), 5 C1, 6 GND (power), 7 INT_MAG/DRDY (out), 8 GND (power), 9 VDD (power), 10 VDD_IO (power), 11 INT_2_XL (out), 12 INT_1_XL (out)

## LTSN-N213EGBW
designator LED?
LED SMD LTSN-N213EGBW; Manufacturer: LiteOn; Manufacturer Part Number: LTSN-N213EGBW; Part Number: LTSN-N213EGBW; Supplier: Arrow Electronics; Footprint Name: CUSTOM(4 pins)
footprint LTSN-N213EGBW (SMD LED LiteOn LTSN-N213EGBW, 2.1 x 2.1 mm, 1.2 x 1.8mm pitch)
pins: 1 Anode "Common Anode", 2 Cathode_Red "Cathode Red", 3 Cathode_Green "Cathode Green", 4 Cathode_Blue "Cathode Blue"

## LTST-C191KGKT
designator D?
SMT LED, Green 571nm, Discrete 2V 0603 (1608 Metric); Manufacturer: LiteOn; Manufacturer Part Number: LTST-C191KGKT; Part Number: LTST-C191KGKT; Supplier: Digikey; Footprint Name: 0603; Supplier Part Number: 160-1446-6-ND
footprint LTST-C191KGKT (SMD LED, 0.80 x 1.6 x 0.55 mm body, 0.8 x 0.8 mm pads, 1.5 mm pitch)
pins: 1 Anode, 2 Cathode

## MBR0540T1G
designator D?
Schottky Power Rectifier, 2-Pin SOD-123, Pb-Free, Tape and Reel; Manufacturer: ON Semiconductor; Manufacturer Part Number: MBR0540T1G; Part Number: MBR0540T1G; Supplier: Arrow Electronics; Footprint Name: SOD123
footprint ONSC-SOD-123-2-425-04_V (Schottky Power Rectifier, 2-Pin SOD-123, Pb-Free, Tape and Reel)
pins: 1 Cathode, 2 Anode

## MC74VHC1G00DFT1G
designator U?
IC Gate NAND 1 Channel; Manufacturer: ON Semiconductor; Part Number: MC74VHC1G00DFT1G; Manufacturer Part Number: MC74VHC1G00DFT1G; Supplier: Arrow Electronics; Footprint Name: SC-70
footprint SC70-5 (SC70-5, 0.4 x 0.5 mm pads, 0.65 x 1.9 mm pitch)
part A pins: 1 (in), 2 (in), 4 (out)
part B pins: 3 GND, 5 VCC

## MC-8B-ATM48-SQ32
designator U4, comment ATmega328P-AU
8-bit AVR Microcontroller, 32KB Flash, 1KB EEPROM, 2KB SRAM, 32-pin TQFP, Industrial Grade (-40Â°C to 85Â°C); PackageDescription: 32-Lead, 7x7x1.0 mm Body, 0.8mm Lead Pitch, Thin Profile Plastic Quad Flat Package (TQFP); DatasheetVersion: revD, May-2011; RevisionNote: DatasheetVersion & PackageVersion updated. URLs added.; ComponentLink1URL: http://www.atmel.com/; ComponentLink2Description: ATmega48A/48PA/88A/88PA/168A/168PA/328/328P Datasheet; Code_JEDEC: MS-026-ABA; ComponentLink1Description: Manufacturer URL; PackageReference: 32A; ComponentLink3Description: ATmega48A/48PA/88A/88PA/168A/168PA/328/328P Summary; ComponentLink2URL: http://www.atmel.com/dyn/resources/prod_documents/doc8271.pdf; PackageVersion: revC, Oct-2010; ComponentLink3URL: http://www.atmel.com/dyn/resources/prod_documents/8271S.pdf
footprint 32A_M (Thin QFP, 32-Leads, Body 7x7mm, Pitch 0.8mm, IPC Low Density)
pins: 1 PD3 (PCINT19/OC2B/INT1) (io), 2 PD4 (PCINT20/XCK/T0) (io), 3 GND (power), 4 VCC (power), 5 GND (power), 6 VCC (power), 7 PB6 (PCINT6/XTAL1/TOSC1) (io), 8 PB7 (PCINT7/XTAL2/TOSC2) (io), 9 PD5 (PCINT21/OC0B/T1) (io), 10 PD6 (PCINT22/OC0A/AIN0) (io), 11 PD7 (PCINT23/AIN1) (io), 12 PB0 (PCINT0/CLKO/ICP1) (io), 13 PB1 (PCINT1/OC1A) (io), 14 PB2 (PCINT2/~{SS}/OC1B) (io), 15 PB3 (PCINT3/OC2A/MOSI) (io), 16 PB4 (PCINT4/MISO) (io), 17 PB5 (SCK/PCINT5) (io), 18 AVCC (power), 19 ADC6 (in), 20 AREF, 21 GND (power), 22 ADC7 (in), 23 PC0 (ADC0/PCINT8) (io), 24 PC1 (ADC1/PCINT9) (io), 25 PC2 (ADC2/PCINT10) (io), 26 PC3 (ADC3/PCINT11) (io), 27 PC4 (ADC4/SDA/PCINT12) (io), 28 PC5 (ADC5/SCL/PCINT13) (io), 29 PC6 (~{RESET}/PCINT14) (io), 30 PD0 (RXD/PCINT16) (io), 31 PD1 (TXD/PCINT17) (io), 32 PD2 (INT0/PCINT18) (io)

## MIC5225-3.3YM5
designator U?
IC REG LDO 3.3V 0.15A SOT23-5
footprint SOT23-5_N (SOT23, 5-Leads, Body 2.9x1.6mm, Pitch 0.95mm, Lead Span 2.8mm, IPC Medium Density)
pins: 1 IN, 2 GND, 3 EN, 4 NC, 5 OUT

## Molex 051281-0594
designator P?
CONN FFC FPC 5POS 0.50MM R/A; Artikkelnr Noca: N.A.; Part Number: Molex 051281-0594; Manufacturer: Molex; Manufacturer Part Number: 051281-0594; Datasheet: http://www.molex.com/pdm_docs/sd/512810694_sd.pdf; Footprint Doc: Molex 051281-0594; LatestRevisionDate: 2015-06-22; Pin Count: 7; Publisher: Nordic Semiconductor; Published: 2015-06-22; Value: Molex 051281-0594; Note: *; Supplier: Digi-Key; Supplier part number: WM9836CT-ND; 2nd source Supplier: *; 2nd source part number: *; Artikkelnr Simpro: N.A.; Footprint Name: CUSTOM(5 pins)
footprint Molex 051281-0594
pins: 1, 2, 3 (power), 4 (power), 5 (power)

## NC7WZ14P6X
designator U?
IC Dual Inverter with Schmitt Trigger Inputs; Manufacturer: Fairchild Semiconductor; Manufacturer Part Number: NC7WZ14P6X; Part Number: NC7WZ14P6X; Supplier: Arrow Electronics; Footprint Name: SOT363
footprint SOT363_SC70_6 (SOT363-6, SC70, 2 x 1.25 x 1 mm body, 16 x 26 mils pads, 26 x 71 mils pitch)
part A pins: 1, 6
part B pins: 3, 4
part C pins: 2 GND, 5 VCC

## NC7WZU04P6X
designator U?, comment NC7WZU04P4X
IC Dual Inverter Unbuffered; Manufacturer: Fairchild Semiconductor; Manufacturer Part Number: NC7WZU04P4X; Part Number: NC7WZU04P4X; Supplier: Arrow Electronics; Footprint Name: SOT363
footprint SOT363_SC70_6 (SOT363-6, SC70, 2 x 1.25 x 1 mm body, 16 x 26 mils pads, 26 x 71 mils pitch)
part A pins: 1, 6
part B pins: 3, 4
part C pins: 2 GND, 5 VCC

## NetTiePWR
designator NT?  (net tie, no BOM)
footprint NetTiePWR (NetTie for Power Nets)
pins: 1 NET1, 2 NET2

## NL27WZ14DFT2G
designator U?
IC Dual Inverter with Schmitt Trigger Inputs; Manufacturer: ON Semiconductor; Manufacturer Part Number: NL27WZ14DFT2G; Part Number: NL27WZ14DFT2G; Supplier: Arrow Electronics; Footprint Name: SOT363
footprint SOT363_SC70_6 (SOT363-6, SC70, 2 x 1.25 x 1 mm body, 16 x 26 mils pads, 26 x 71 mils pitch)
part A pins: 1, 6
part B pins: 3, 4
part C pins: 2 GND, 5 VCC

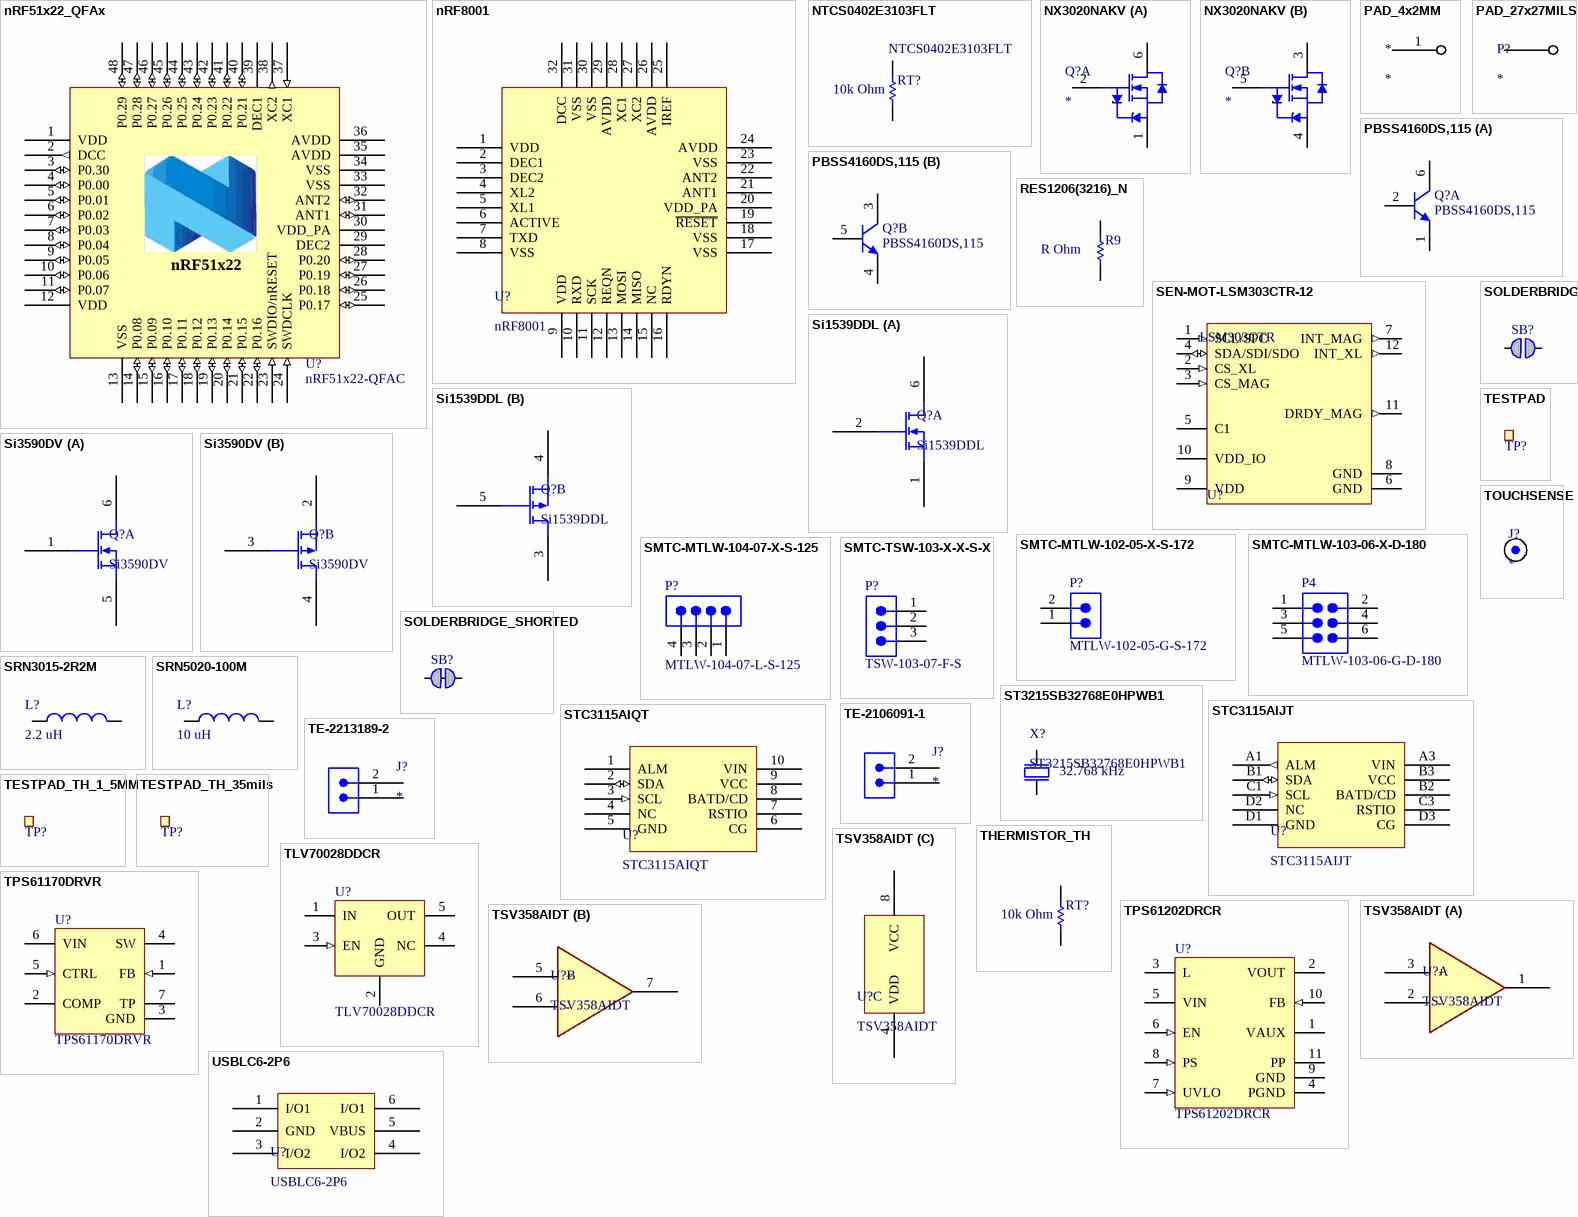
[diagram p2: symbols nRF51x22_QFAx to USBLC6-2P6]

## nRF51x22_QFAx
designator U?, comment nRF51x22-QFAC
Multi-protocol Bluetooth Low Energy, ANT and 2.4GHz proprietary system-on-chip; Manufacturer: Nordic Semiconductor; Note: nRF51422 - QFN48 6x6 0.4mm pitch; Artikkelnr Noca: N.A.; Part Number: nRF51x22-QFAC; Manufacturer Part Number: nRF51x22-QFAC; Datasheet: *; LatestRevisionDate: 2014-09-24; Pin Count: 48; Publisher: Nordic Semiconductor; Published: 2014-09-24; Value: nRF51x22-QFAC; Supplier: Nordic Semiconductor; Supplier part number: *; 2nd source Supplier: *; 2nd source part number: *; Footprint Doc: QFN-48; Artikkelnr Simpro: N.A.
footprint QFN40P600X600X90-48N
pins: 1 VDD (power), 2 DCC (out), 3 P0.30 (io), 4 P0.00 (io), 5 P0.01 (io), 6 P0.02 (io), 7 P0.03 (io), 8 P0.04 (io), 9 P0.05 (io), 10 P0.06 (io), 11 P0.07 (io), 12 VDD (power), 13 VSS (power), 14 P0.08 (io), 15 P0.09 (io), 16 P0.10 (io), 17 P0.11 (io), 18 P0.12 (io), 19 P0.13 (io), 20 P0.14 (io), 21 P0.15 (io), 22 P0.16 (io), 23 SWDIO/nRESET (in), 24 SWDCLK (in), 25 P0.17 (io), 26 P0.18 (io), 27 P0.19 (io), 28 P0.20 (io), 29 DEC2 (power), 30 VDD_PA (power), 31 ANT1 (io), 32 ANT2 (io), 33 VSS (power), 34 VSS (power), 35 AVDD (power), 36 AVDD (power), 37 XC1 (in), 38 XC2 (out), 39 DEC1 (power), 40 P0.21 (io), 41 P0.22 (io), 42 P0.23 (io), 43 P0.24 (io), 44 P0.25 (io), 45 P0.26 (io), 46 P0.27 (io), 47 P0.28 (io), 48 P0.29 (io), 49 (power) hidden to GND
text: nRF51x22

## nRF8001
designator U?
IC BLUETOOTH TRANSCEIVER 32QFN
footprint Model Name (Footprint not found)
footprint Nordic_QFN50P500X500X90-33N (QFN, 32-Leads, Body 5.0x5.0mm, Pitch 0.5mm, Thermal Pad 3.6x3.6mm)
pins: 1 VDD, 2 DEC1, 3 DEC2, 4 XL2, 5 XL1, 6 ACTIVE, 7 TXD, 8 VSS, 9 VDD, 10 RXD, 11 SCK, 12 REQN, 13 MOSI, 14 MISO, 15 NC, 16 RDYN, 17 VSS, 18 VSS, 19 ~{RESET}, 20 VDD_PA, 21 ANT1, 22 ANT2, 23 VSS, 24 AVDD, 25 IREF, 26 AVDD, 27 XC2, 28 XC1, 29 AVDD, 30 VSS, 31 VSS, 32 DCC, 33 GND (power) hidden to GND "Thermal relief"

## NTCS0402E3103FLT
designator RT?  value 10k Ohm
Thermistor NTC 0402, R0 10k, 1%, B 3490, SMD; Manufacturer: Vishay; Case-Metric: 1005; Case-EIA: 0402; Beta: 3490; Tolerance: 1%; Technology: SMT; Part Number: NTCS0402E3103FLT; Manufacturer Part Number: NTCS0402E3103FLT; Supplier: Arrow Electronics; Footprint Name: 0402
footprint Varitron_RES0402 (Resistor 0402(1005), max 1mm height)
pins: 1, 2
1 alternate drawing of the same symbol

## NX3020NAKV
designator Q?
30 V, 200 mA dual N-channel Trench MOSFET; Manufacturer: NXP Semiconductors; Manufacturer Part Number: NX3020NAKV; Part Number: NX3020NAKV; Supplier: Arrow Electronics; Footprint Name: SOT666
footprint SOT666 (SOT666, 1.3 x 1.7 x 0.6 mm body, 0.375 x 0.5 mm pads, 1.6 x 0.538 mm pitch)
part A pins: 1 S1 "source", 2 G1 "gate", 6 D1 "drain"
part B pins: 3 D2 "drain", 4 S2 "source", 5 G2 "gate"

## PAD_4x2MM
designator *
footprint PAD_4x2MM (Pad 4 x 2 mm)
pins: 1

## PAD_27x27MILS
designator P?  (no BOM)
27 x 27 mils PAD connection
footprint PAD_27x27MILS (Pad 27 x 27 mils)
pins: 1

## PBSS4160DS,115
designator Q?
TRANS 2NPN 60V 1A 6TSOP; Manufacturer: NXP Semiconductors; Polarity: NPN; Mounting Technology: Surface Mount; PackageDescription: 6-Pin Semiconductor Package, 2.9 x 1.6 mm Body, 0.95 mm Pitch; PackageReference: SC74; PartNumber: PBSS4160DS; Manufacturer Part Number: PBSS4160DS,115; Digi-Key Part Number: 568-4350-1-ND
footprint NXP-SC74_M (SOT23, 6-Leads, Body 2.9x1.6mm, Pitch 0.95mm, IPC Low Density)
part A pins: 1 E1, 2 B1, 6 C1
part B pins: 3 C2, 4 E2, 5 B2

## RES1206(3216)_N
designator R9, comment R Ohm
R W TOL%  1206 (3216 Metric)  SMD; Tolerance: TOL; Case-Metric: 3216; Case-EIA: 1206; Technology: SMT; Power: W; Value: R Ohm
footprint RESC1206(3216)_N (Chip Resistor, Body 3.2x1.6mm, IPC Medium Density)
pins: 1, 2
1 alternate drawing of the same symbol

## SEN-MOT-LSM303CTR-12
designator U?, comment LSM303CTR
3D ACCELEROMETER/MAGNETOMETER
footprint LGA12-2X2X1_N (PQFN, 12-Leads, Body 2x2mm, Pitch 0.5mm, IPC Medium Density)
pins: 1 SCL/SPC (in), 2 CS_XL (in), 3 CS_MAG (in), 4 SDA/SDI/SDO (io), 5 C1, 6 GND (power), 7 INT_MAG (out), 8 GND (power), 9 VDD (power), 10 VDD_IO (power), 11 DRDY_MAG (out), 12 INT_XL (out)

## Si1539DDL
designator Q?
N and P Channel 30 V MOSFET; Manufacturer: Vishay; Manufacturer Part Number: Si1539DDL; Part Number: Si1539DDL
footprint SOT363_SC70_6 (SOT363-6, SC70, 2 x 1.25 x 1 mm body, 16 x 26 mils pads, 26 x 71 mils pitch)
part A pins: 1 S1, 2 G1, 6 D1
part B pins: 3 D2 "GND", 4 S2 "GND", 5 G2 "GND"

## Si3590DV
designator Q?
N and P Channel 30 V MOSFET; Manufacturer: Vishay; Manufacturer Part Number: Si3590DV; Part Number: Si3590DV; Supplier: Arrow Electronics; Footprint Name: TSOP6
footprint TSOP-6 (TSOP 6 leads, 3.05 x 1.65 x 1.1 mm body, 6 pads, 0.508 x 0.699 mm pads. 1.001 x 2.325 mm pitch)
part A pins: 1 G1, 5 S1, 6 D1
part B pins: 2 S2, 3 G2, 4 D2

## SMTC-MTLW-102-05-X-S-172
designator P?, comment MTLW-102-05-G-S-172  (no BOM)
Low Profile .025" SQ Post Header, Through-hole, Vertical, -55 to 125 degC, 2.54 mm Pitch, 2-Pin, Male, RoHS; Manufacturer: Samtec; Pitch: 2.54 mm; ComponentLink2URL: http://www.samtec.com/documents/webfiles/pdf/MTLW_TH.PDF; PackageDescription: Low Profile Terminal Assembly; ComponentLink3URL: http://www.samtec.com/documents/webfiles/cpdf/MTLW-1XX-XX-XX-X-XXX-XX-XX-MKT1.pdf; PackageReference: MTLW-102-05-X-S-172; Mounting Technology: Through-hole; ComponentLink2Description: Datasheet; PackageVersion: T, 6/1991; Orientation: Vertical; DatasheetVersion: F-214; RoHS: True; ComponentLink3Description: Package Specification; ComponentLink1URL: http://www.samtec.com; Temperature Range: -55 to 125 degC; PartNumber: MTLW-102-05-G-S-172; ComponentLink1Description: Manufacturer URL
footprint SMTC-MTLW-102-05-X-S-172 (Terminal Assembly, 1x2 Pins, Vertical, 2.54mm Pitch, Male)
pins: 1, 2

## SMTC-MTLW-103-06-X-D-180
designator P4, comment MTLW-103-06-G-D-180  (no BOM)
Low Profile .025" SQ Post Header, Through-hole, Vertical, -55 to 125 degC, 2.54 mm Pitch, 6-Pin, Male, RoHS; Manufacturer: Samtec; Pitch: 2.54 mm; PartNumber: MTLW-103-06-G-D-180; ComponentLink2Description: Datasheet; ComponentLink3URL: http://www.samtec.com/documents/webfiles/cpdf/MTLW-1XX-XX-XX-X-XXX-XX-XX-MKT1.pdf; ComponentLink1URL: http://www.samtec.com; Orientation: Vertical; PackageVersion: T, 6/1991; PackageDescription: Low Profile Terminal Assembly; ComponentLink3Description: Package Specification; ComponentLink1Description: Manufacturer URL; DatasheetVersion: F-214; Temperature Range: -55 to 125 degC; ComponentLink2URL: http://www.samtec.com/documents/webfiles/pdf/MTLW_TH.PDF; RoHS: True; Mounting Technology: Through-hole; PackageReference: MTLW-103-06-X-D-180
footprint SMTC-MTLW-103-06-X-D-180 (Terminal Assembly, 2x3 Pins, Vertical, 2.54mm Pitch, Male)
pins: 1, 2, 3, 4, 5, 6

## SMTC-MTLW-104-07-X-S-125
designator P?, comment MTLW-104-07-L-S-125  (no BOM)
Low Profile .025" SQ Post Header, Through-hole, Vertical, -55 to 125 degC, 2.54 mm Pitch, 4-Pin, Male, RoHS; Manufacturer: Samtec; Pitch: 2.54 mm; PackageDescription: Low Profile Terminal Assembly; PartNumber: MTLW-104-07-L-S-125; PackageReference: MTLW-104-07-X-S-125; ComponentLink1Description: Manufacturer URL; ComponentLink2Description: Datasheet; ComponentLink2URL: http://www.samtec.com/documents/webfiles/pdf/MTLW_TH.PDF; ComponentLink3Description: Package Specification; Mounting Technology: Through-hole; ComponentLink3URL: http://www.samtec.com/documents/webfiles/cpdf/MTLW-1XX-XX-XX-X-XXX-XX-XX-MKT1.pdf; ComponentLink1URL: http://www.samtec.com; Orientation: Vertical; PackageVersion: T, 6/1991; DatasheetVersion: F-214; Temperature Range: -55 to 125 degC; RoHS: True
footprint SMTC-MTLW-104-07-X-S-125 (Terminal Assembly, 1x4 Pins, Vertical, 2.54mm Pitch, Male)
pins: 1, 2, 3, 4

## SMTC-TSW-103-X-X-S-X
designator P?, comment TSW-103-07-F-S  (no BOM)
0.025" SQ Post Header, Through-hole, Vertical, -55 to 125 degC, 2.54 mm Pitch, 3-Pin, Male, RoHS
footprint SMTC-TSW-103-07-X-S (.025 SQ Post Terminal Strip Assembly, 1x3 Pins, Vertical, 2.54mm Pitch, Male)
pins: 1, 2, 3

## SOLDERBRIDGE
designator SB?, comment Solderbridge  (value not drawn)  (no BOM)
Value: Solderbridge
footprint Solderbridge
pins: 1 0, 2 1

## SOLDERBRIDGE_SHORTED
designator SB?, comment Solderbridge  (value not drawn)  (net tie, no BOM)
Shorted Solderbridge; Value: Solderbridge
footprint Solderbridge_Shorted
pins: 1 0, 2 1

## SRN3015-2R2M
designator L?, comment 2.2 uH
Inductor, 2.2 uH, 20%, 72 mOhm DCR, 1.65A; Manufacturer: Bourns; Manufacturer Part Number: SRN3015-2R2M; DCR: 72 mOhm; Part Number: SRN3015-2R2M; Value: 2.2 uH; Tolerance: 20%; Saturation Current: 1.65A; Supplier: Arrow Electronics; Footprint Name: IND3015
footprint SRN3015-2R2M (Inductor, 3.0 x 3.0 x 1.5 mm, 1.0 x 2.7 pads, 2.2 mm pitch)
pins: 1, 2

## SRN5020-100M
designator L?, comment 10 uH
Inductor, 10 uH, 20%, 144 mOhm DCR, 1.3A; Manufacturer: Bourns; Manufacturer Part Number: SRN5020-100M; Part Number: SRN5020-100M; Value: 10 uH; Tolerance: 20%; DCR: 144 mOhm; Saturation Current: 1.3A; Supplier: Arrow Electronics; Footprint Name: IND5020
footprint SRN5020-100M (Inductor SRN5020-100M, 10 uH, 5.0 x 5.0 mm x 2.0 body, 1.6 x 5.7 mm pad, 4.7 mm pitch)
pins: 1, 2

## ST3215SB32768E0HPWB1
designator X?  Frequency: 32.768 kHz
XTAL 32.768 kHz, 9pF, 3.2 x 1.5 mm, ±20 ppm Tol, ±200 ppm Drift; Manufacturer: AVX/Kyocera; Frequency Tolerance: ±20 ppm; Frequency Drift: ±200 ppm; Manufacturer Part Number: ST3215SB32768E0HPWB1; Part Number: ST3215SB32768E0HPWB1; Load Capacitance: 9 pF; Supplier: Arrow Electronics; Footprint Name: XTAL3215
footprint CRYSTAL_3215_2Pins (CRYSTAL 3.2 x 1.5 x 0.8 mm, 2 Pads 1.0 x 1.55 mm, 2.6 mm pitch)
pins: 1, 2

## STC3115AIJT
designator U?
IC Battery Fuel Gauge for 1-Cell Lithium-ion (Li+); Manufacturer: ST Microelectronics; Manufacturer Part Number: STC3115AIJT; Part Number: STC3115AIJT; Supplier: Arrow Electronics; Footprint Name: CSP10
footprint CSP10 (CSP10, 10 pins, 2.01 x 1.37 x 0.6 mm body, 0.22 mm circular pads, 0.4 mm pitch)
pins: A1 ALM (out), A3 VIN (power), B1 SDA (io), B2 BATD/CD, B3 VCC (power), C1 SCL (in), C3 RSTIO, D1 GND (power), D2 NC, D3 CG (power)

## STC3115AIQT
designator U?
IC Battery Fuel Gauge for 1-Cell Lithium-ion (Li+); Manufacturer: ST Microelectronics; Manufacturer Part Number: STC3115AIQT; Part Number: STC3115AIQT; Supplier: Arrow Electronics; Footprint Name: DFN10
footprint DFN10 (DFN10, 10 pins, 2 x 3 x 0.55 mm body, 0.35 x 0.85 mm pads, 0.5 mm x 1.5 mm pitch.)
pins: 1 ALM, 2 SDA (io), 3 SCL (in), 4 NC, 5 GND (power), 6 CG (power), 7 RSTIO, 8 BATD/CD, 9 VCC (power), 10 VIN (power)

## TE-2106091-1
designator J?
2 pos Inverted Thru Board SMT Header; Manufacturer: TE; Manufacturer Part Number: 2106091
footprint TE-2106091-1 (2 pos Inverted Thru Board SMT Header)
pins: 1, 2

## TE-2213189-2
designator J?
Assembly, IPI Connector 26-24GA w/o cap; Manufacturer: TE; Manufacturer Part Number: 2213189-2
footprint TE-2213189-2 (Assembly, IPI Connector 26-24GA w/o cap)
pins: 1, 2

## TESTPAD
designator TP?, comment Ø1.0mm,SMD  (value not drawn)  (no BOM)
1.0mm circular SMD testpad; Value: Ø1.0mm,SMD
footprint TP_SMD_Ø1.0mm
pins: 1

## TESTPAD_TH_1_5MM
designator TP?, comment TP  (value not drawn)  (no BOM)
Testpoint, through hole, 1.5mm; Value: TP
footprint TESTPAD-TH-1_5mm (Through-hole testpad, 1.5mm)
pins: 1

## TESTPAD_TH_35mils
designator TP?, comment TP  (value not drawn)  (no BOM)
Testpoint, through hole, 35 mils; Value: TP
footprint TESTPAD-TH-35mils (Through-hole testpad 35 mils)
pins: 1

## THERMISTOR_TH
designator RT?  value 10k Ohm  (no BOM)
Thermistor NTC TH, R0 10k, 1%, B , TH; Tolerance: 1%; Technology: TH; Supplier: Arrow Electronics; Footprint Name: THROUGHHOLE(2 pins)
footprint THERMISTOR_TH (Through hole pads for thermistor)
pins: 1, 2
1 alternate drawing of the same symbol

## TLV70028DDCR
designator U?
200 mA Low Dropout Regulator, 2 - 5.5V Input, Fixed 2.8V Output; Manufacturer: Texas Instruments; Part Number: TLV70028DDCR; Manufacturer Part Number: TLV70028DDCR; Supplier: Arrow Electronics; Footprint Name: SOT23-5
footprint SOT23-5_N (SOT23, 5-Leads, Body 2.9x1.6mm, Pitch 0.95mm, Lead Span 2.8mm, IPC Medium Density)
pins: 1 IN (power), 2 GND (power), 3 EN (in), 4 NC, 5 OUT (power)

## TOUCHSENSE
designator J?  (no BOM)
Touch Sensor pad connection
footprint TOUCHSENSE (Touch sensor pad, 0.5mm)
pins: 1

## TPS61170DRVR
designator U?
Boost Voltage Converter with 3 to 18 V Input and 3 to 38 V Output, -40 to 85 degC, 6-Pin SON (DRC), Green (RoHS & no Sb/Br); Manufacturer: Texas Instruments; Part Number: TPS61170DRVR; Manufacturer Part Number: TPS61170DRVR; Supplier: Arrow Electronics; Footprint Name: SON6
footprint DRV6-1600X1000TP (SON, 6-Leads, Body 2x2mm, Pitch 0.65mm, Thermal Pad 1.6x1mm, TI Recommended)
pins: 1 FB (in) "Feedback pin for current. Connect to the center tap of a resistor divider to program the output voltage.", 2 COMP "Output of the transconductance error amplifier. Connect an external RC network to this pin to compensate the regulator.", 3 GND (power) "Ground", 4 SW (power) "This is the switching node of the IC. Connect SW to the switched side of the inductor", 5 CTRL (in) "Control pin of the boost regulator. CTRL is a multi-functional pin which can be used to enable the device and control the feedback voltage with a PWM signal or for digital communications.", 6 VIN (power) "The input supply pin for the IC. Connect VIN to a supply voltage between 3 V and 18 V.", 7 TP (power) "The thermal pad should be soldered to the analog ground plane to avoid thermal issue. If possible, use thermal vias to connect to ground plane for ideal power dissipation."

## TPS61202DRCR
designator U?
Boost Voltage Converter with 0.3 to 5.5 V Input and 5 V Output, -40 to 85 degC, 10-Pin SON (DRC), Green (RoHS & no Sb/Br); Manufacturer: Texas Instruments; Part Number: TPS61202DRCR; Manufacturer Part Number: TPS61202DRCR; Supplier: Arrow Electronics; Footprint Name: SON10
footprint DRC10-2400X1650TP (SON, 10-Leads, Body 3x3mm, Pitch 0.5mm, Thermal Pad 2.4x1.65mm, TI Recommended)
pins: 1 VAUX (power) "Supply voltage for control stage", 2 VOUT (power) "Boost converter output", 3 L (power) "Connection for Inductor", 4 PGND (power) "Power ground", 5 VIN (power) "Boost converter input voltage", 6 EN (in) "Enable input (1: enabled, 0: disabled).", 7 UVLO (in) "Undervoltage lockout comparator input, must be connected to VAUX if not used", 8 PS (in) "Enable/disable Power Save mode (1 : disabled, 0: enabled)", 9 GND (power) "Control / logic ground", 10 FB (in) "Voltage feedback of adjustable versions, must be connected to VOUT at fixed output voltage versions", 11 PP (power) "Must be soldered to achieve appropriate power dissipation. Should be connected to PGND."

## TSV358AIDT
designator U?
IC OPAMP GP 1.4MHZ RRO 8SO
footprint SOP8 - ST (SOP8, 3.9 x 4.9 x 1.75 mm body, 1.27mm x 4.95 mm pitch)
part A pins: 1 OUT1, 2 - "IN1-", 3 + "IN1+"
part B pins: 5 + "IN2+", 6 - "IN2-", 7 OUT2
part C pins: 4 VDD (power), 8 VCC (power)

## USBLC6-2P6
designator U?
Very low capacitance ESD protection; Manufacturer: STMicroelectronics; Manufacturer Part Number: USBLC6-2P6; Part Number: USBLC6-2P6; Supplier: Arrow Electronics; Footprint Name: SOT666
footprint ST-SOT666 (SOT666, 1.7 x 1.3 x 0.6 mm body, 0.99 x 0.30 pads, 0.5 x 1.115 mm pitch)
pins: 1 I/O1, 2 GND (power) "Ground", 3 I/O2, 4 I/O2, 5 VBUS (power) "Vbus", 6 I/O1 "I/O6"

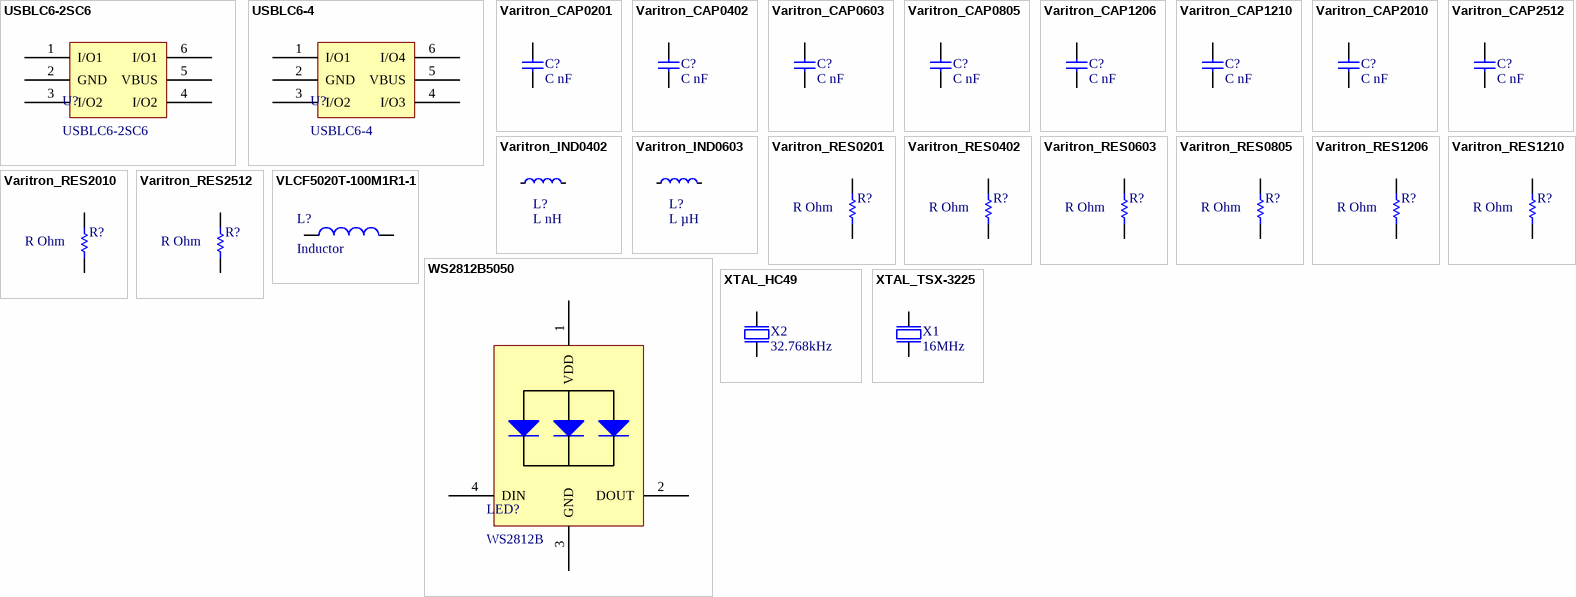
[diagram p3: symbols USBLC6-2SC6 to XTAL_TSX-3225]

## USBLC6-2SC6
designator U?
Very low capacitance ESD protection; Manufacturer: STMicroelectronics; Manufacturer Part Number: USBLC6-2SC6; Part Number: USBLC6-2SC6; Supplier: Arrow Electronics; Footprint Name: SOT23-6
footprint ST-SOT23-6 (ST SOT23-6 pins, 3.05 x 1.75 mm body, 0.6mm x 1.2mm pads, 0.95 x 2.3 mm pitch)
pins: 1 I/O1, 2 GND (power) "Ground", 3 I/O2, 4 I/O2, 5 VBUS (power) "Vbus", 6 I/O1 "I/O6"

## USBLC6-4
designator U?
Very low capacitance ESD protection; Manufacturer: STMicroelectronics; Manufacturer Part Number: USBLC6-4; Part Number: USBLC6-4; Supplier: Arrow Electronics; Footprint Name: SOT666
footprint ST-SOT666 (SOT666, 1.7 x 1.3 x 0.6 mm body, 0.99 x 0.30 pads, 0.5 x 1.115 mm pitch)
pins: 1 I/O1, 2 GND (power) "Ground", 3 I/O2, 4 I/O3, 5 VBUS (power) "Vbus", 6 I/O4

## Varitron_CAP0201
designator C?, comment C nF
C nF V TEMP TOL% 0201 (0603 Metric)  SMD; Case-EIA: 0201; Case-Metric: 0603; Tolerance: TOL; Technology: SMT; Supplier: Arrow Electronics; Footprint Name: 0201; Value: C nF
footprint Varitron_CAP0201 (Capacitor 0201(0603), max 1mm height)
pins: 1, 2

## Varitron_CAP0402
designator C?, comment C nF
C nF V TEMP TOL% 0402 (1005 Metric)  SMD; Case-EIA: 0402; Case-Metric: 1005; Tolerance: TOL; Technology: SMT; Supplier: Arrow Electronics; Footprint Name: 0402; Value: C nF
footprint Varitron_CAP0402 (Capacitor 0402(1005), max 1mm height)
pins: 1, 2

## Varitron_CAP0603
designator C?, comment C nF
C nF V TEMP TOL% 0603 (1608 Metric)  SMD; Case-EIA: 0603; Case-Metric: 1608; Tolerance: TOL; Technology: SMT; Supplier: Arrow Electronics; Footprint Name: 0603; Value: C nF
footprint Varitron_CAP0603 (Capacitor 0603(1608), max 1mm height)
pins: 1, 2

## Varitron_CAP0805
designator C?, comment C nF
C nF V TEMP TOL% 0805 (2012 Metric)  SMD; Case-EIA: 0805; Case-Metric: 2012; Tolerance: TOL; Technology: SMT; Supplier: Arrow Electronics; Footprint Name: 0805; Value: C nF
footprint Varitron_CAP0805 (Capacitor 0805(2012), max 1mm height)
pins: 1, 2

## Varitron_CAP1206
designator C?, comment C nF
C nF V TEMP TOL% 1206 (3216 Metric)  SMD; Case-EIA: 1206; Case-Metric: 3216; Tolerance: TOL; Technology: SMT; Supplier: Arrow Electronics; Footprint Name: 1206; Value: C nF
footprint Varitron_CAP1206 (Capacitor 1206(3216), max 1mm height)
pins: 1, 2

## Varitron_CAP1210
designator C?, comment C nF
C nF V TEMP TOL% 1210 (3225 Metric)  SMD; Case-EIA: 1210; Case-Metric: 3225; Tolerance: TOL; Technology: SMT; Supplier: Arrow Electronics; Footprint Name: 1210; Value: C nF
footprint Varitron_CAP1210 (Capacitor 1210(3225), max 1mm height)
pins: 1, 2

## Varitron_CAP2010
designator C?, comment C nF
C nF V TEMP TOL% 2010 (5025 Metric)  SMD; Case-EIA: 2010; Case-Metric: 5025; Tolerance: TOL; Technology: SMT; Supplier: Arrow Electronics; Footprint Name: 2010; Value: C nF
footprint Varitron_CAP2010 (Capacitor 2010(5025), max 1mm height)
pins: 1, 2

## Varitron_CAP2512
designator C?, comment C nF
C nF V TEMP TOL% 2512 (6432 Metric)  SMD; Case-EIA: 2512; Case-Metric: 6432; Tolerance: TOL; Technology: SMT; Supplier: Arrow Electronics; Footprint Name: 2512; Value: C nF
footprint Varitron_CAP2512 (Capacitor 2512(6432), max 1.2mm height)
pins: 1, 2

## Varitron_IND0402
designator L?, comment L nH
L nH TOL% 0402 (1005 Metric)  SMD; Case-EIA: 0402; Case-Metric: 1005; Tolerance: TOL; SRF: MHz; DCR: Ohm; Technology: SMT; Supplier: Arrow Electronics; Footprint Name: 0402; Value: L nH
footprint Varitron_IND0402 (Inductor 0402(1005), max 1mm height)
pins: 1, 2

## Varitron_IND0603
designator L?, comment L µH
L µH TOL% 0603 (1608 Metric)  SMD; Case-EIA: 0603; Case-Metric: 1608; Tolerance: TOL; SRF: MHz; DCR: Ohm; Technology: SMT; Supplier: Arrow Electronics; Footprint Name: 0603; Value: L µH
footprint Varitron_IND0603 (Inductor 0603(1608), max 1mm height)
pins: 1, 2

## Varitron_RES0201
designator R?, comment R Ohm
R W TOL% 0201 (0603 Metric)  SMD; Tolerance: TOL; Case-Metric: 0603; Case-EIA: 0201; Technology: SMT; Power: W; Supplier: Arrow Electronics; Footprint Name: 0201; Value: R Ohm
footprint Varitron_RES0201 (Resistor 0201(0603), max 1mm height)
pins: 1, 2
1 alternate drawing of the same symbol